# Altium footprint library MQ-7 Up.PcbLib: 1 footprints
Each footprint in its own frame and in the unit in brackets; x right, y up, seen from the top. Pads: shape width x height; smd on the part's side, far side on the other; paste and mask are expansions set on the pad; w line width, h text height; cw(c..) or ccw(c..) is an arc to the next point about the centre after c.
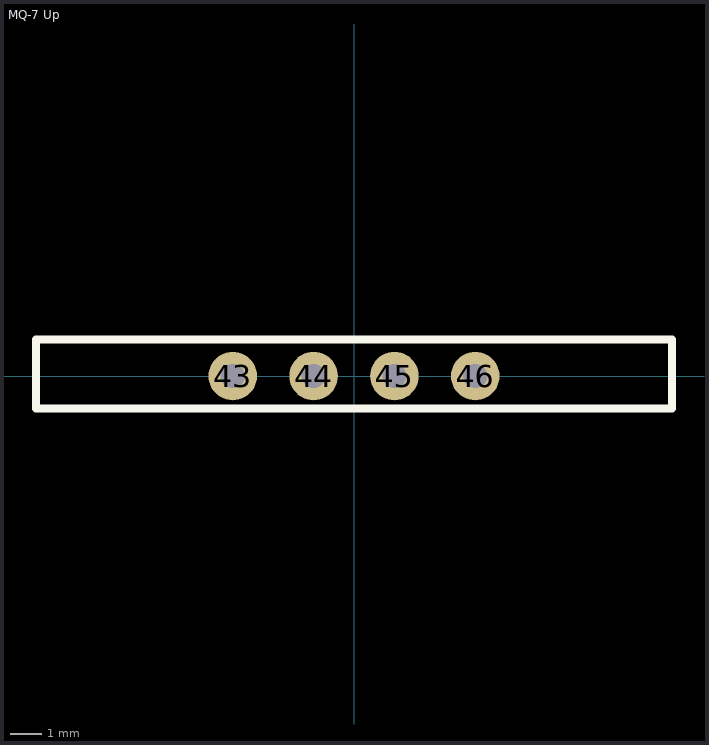
[diagram p0: the footprint, top view; thin cyan lines are the x and y axes]

## MQ-7 Up [mil]
pads (4):
  round 60 hole 30: 43(-150,0) 44(-50,0) 45(50,0) 46(150,0)
Top Overlay:
  lines w10: 391.3,-40 -393.7,-40 -393.7,45 393.7,45 393.7,-40
3D body "?????? ???? MQ7 (CO ??? ??????? ???).STEP": height 1289.37, standoff -305.12, extent -440,-34.8 437.95,614.8